# Altium footprint library Component_Footprints.PcbLib: 8 footprints
Each footprint in its own frame and in the unit in brackets; x right, y up, seen from the top. Pads: shape width x height; smd on the part's side, far side on the other; paste and mask are expansions set on the pad; w line width, h text height; cw(c..) or ccw(c..) is an arc to the next point about the centre after c.
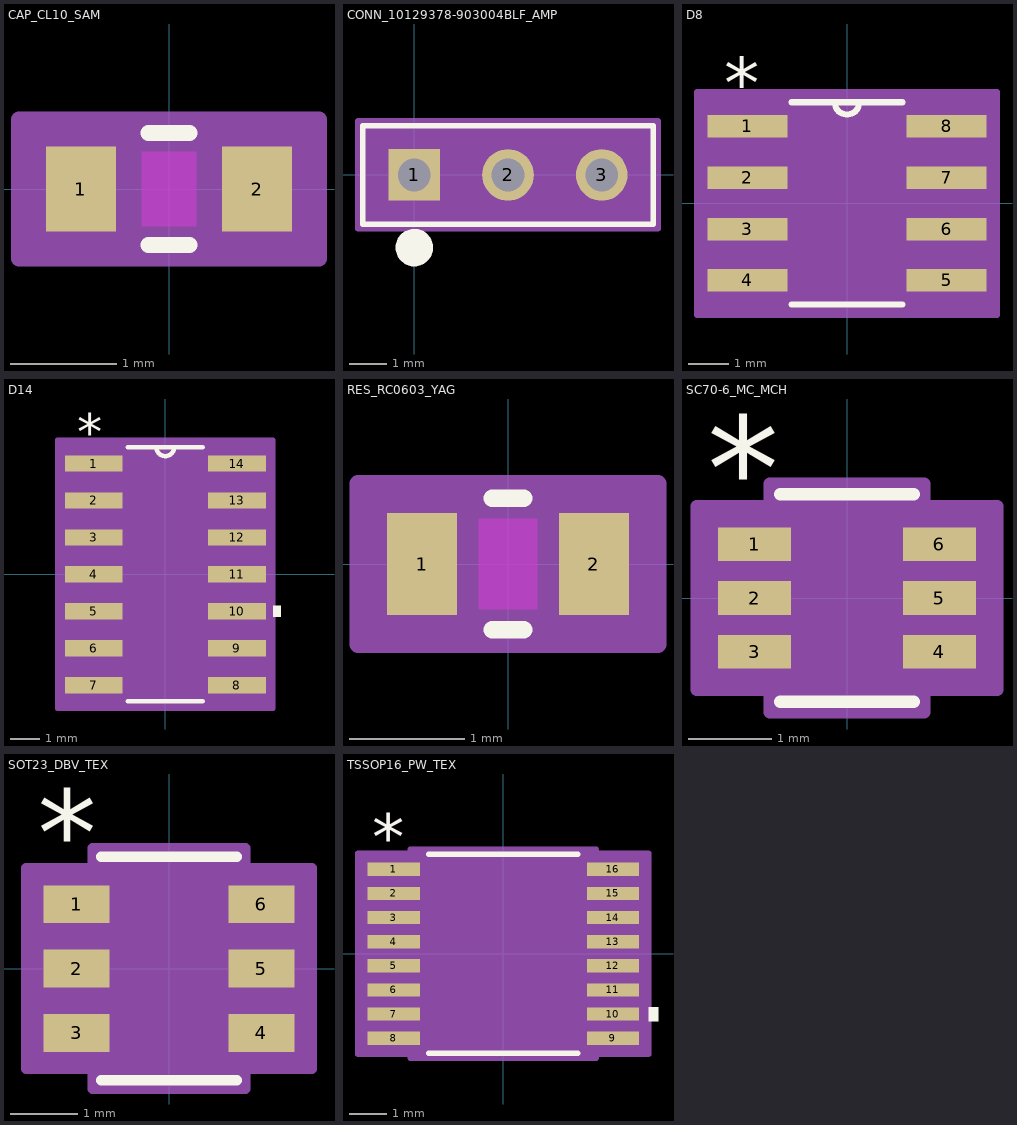
[diagram p0: the footprints below, top view; thin cyan lines are the x and y axes]

## CAP_CL10_SAM [mm]
pads (2):
  rect 0.656x0.8 smd paste+0 mask+0: 1(-0.828,0) 2(0.828,0)
Top Layer keep-out:
  region: -0.254,-0.349 -0.254,0.349 0.254,0.349 0.254,-0.349
Top Overlay:
  lines w0.152: -0.192,-0.527 0.192,-0.527 ; -0.192,0.527 0.192,0.527
Mechanical 13:
  lines w0.025: -0.8,-0.4 -0.8,0.4 ; -0.8,-0.4 -0.5,-0.4 -0.5,0.4 -0.8,0.4 ; -0.8,-0.4 0.8,-0.4 ; -0.8,-0.4 -0.8,0.4 ; -0.8,0.4 0.8,0.4 ; 0.8,-0.4 0.5,-0.4 0.5,0.4 0.8,0.4 ; 0.8,-0.4 0.8,0.4 ; 0.8,-0.4 0.8,0.4
Mechanical 15:
  region: 1.41,-0.654 -1.41,-0.654 -1.41,0.654 1.41,0.654
  lines w0.152: -1.41,-0.654 -1.41,0.654 1.41,0.654 1.41,-0.654 -1.41,-0.654
3D body "CAP_CL10_SAM.step": height 0.9, standoff 0, extent -0.8,-0.4 0.8,0.4

## CONN_10129378-903004BLF_AMP [mil]
pads (3):
  rect 55x55 / inner round 60 / far side rect 55x55 hole 35 paste-99999 mask+0: 1(0,0)
  round 55 / inner round 60 / far side round 55 hole 35 paste-99999 mask+0: 2(100,0) 3(200,0)
Top Overlay:
  circle w20: c0,-77.5 r10
  lines w6: -55,-52.5 255,-52.5 255,52.5 -55,52.5 -55,-52.5
Mechanical 13:
  circle w0: c0,-32.5 r10
  lines w1: -50,-47.5 250,-47.5 250,47.5 -50,47.5 -50,-47.5
Mechanical 15:
  region: 260,57.5 -60,57.5 -60,-57.5 260,-57.5
  lines w6: -60,-57.5 -60,57.5 260,57.5 260,-57.5 -60,-57.5
3D body "CONN_10129378-903004BLF_AMP.step": height 417.99, standoff -200, extent -50,-47.48 250,47.48

## D8 [mil]
pads (8):
  rect 78x22 smd paste-39 mask-39: 1(-97,75) 2(-97,25) 3(-97,-25) 4(-97,-75) 5(97,-75) 6(97,-25) 7(97,25) 8(97,75)
Top Overlay:
  lines w6: -54.08,-98.5 54.08,-98.5 ; -54.08,98.5 54.08,98.5 ; -12,98.5 ccw(c0,98.5) 12,98.5
  text "*" at -119.5,92 h50
Mechanical 13:
  lines w0: -12,98.5 ccw(c0,98.5) 12,98.5
  lines w1: -122,-85 -78.5,-85 -78.5,-65 -122,-65 -122,-85 ; -122,-35 -78.5,-35 -78.5,-15 -122,-15 -122,-35 ; -122,15 -78.5,15 -78.5,35 -122,35 -122,15 ; -122,65 -78.5,65 -78.5,85 -122,85 -122,65 ; -78.5,-98.5 -78.5,98.5 78.5,98.5 78.5,-98.5 -78.5,-98.5 ; 78.5,-85 122,-85 122,-65 78.5,-65 78.5,-85 ; 78.5,-35 122,-35 122,-15 78.5,-15 78.5,-35 ; 78.5,15 122,15 122,35 78.5,35 78.5,15 ; 78.5,65 122,65 122,85 78.5,85 78.5,65
  text "*" at -119.5,92 h50
Mechanical 15:
  region: 146,-108.5 -146,-108.5 -146,108.5 146,108.5
  lines w6: -146,-108.5 146,-108.5 146,108.5 -146,108.5 -146,-108.5
3D body "D8.step": height 69.09, standoff 0, extent -122.01,-98.5 122.01,98.5

## D14 [mil]
pads (14):
  rect 78x22 smd paste-39 mask-39: 1(-97,150) 2(-97,100) 3(-97,50) 4(-97,0) 5(-97,-50) 6(-97,-100) 7(-97,-150) 8(97,-150) 9(97,-100) 10(97,-50) 11(97,0) 12(97,50) 13(97,100) 14(97,150)
Top Overlay:
  region: 146,-42.5 156,-42.5 156,-57.5 146,-57.5
  lines w6: -50.89,-172 50.89,-172 ; -50.89,172 50.89,172 ; -12,172 ccw(c0,172) 12,172
  text "*" at -119.5,167 h50
Mechanical 13:
  lines w0: -12,172 ccw(c0,172) 12,172
  lines w1: -122,-160 -122,-140 -78.5,-140 -78.5,-160 -122,-160 ; -122,-110 -122,-90 -78.5,-90 -78.5,-110 -122,-110 ; -122,-60 -122,-40 -78.5,-40 -78.5,-60 -122,-60 ; -122,-10 -122,10 -78.5,10 -78.5,-10 -122,-10 ; -122,40 -122,60 -78.5,60 -78.5,40 -122,40 ; -122,90 -122,110 -78.5,110 -78.5,90 -122,90 ; -122,140 -122,160 -78.5,160 -78.5,140 -122,140 ; -78.5,-172 78.5,-172 78.5,172 -78.5,172 -78.5,-172 ; 78.5,-160 78.5,-140 122,-140 122,-160 78.5,-160 ; 78.5,-110 78.5,-90 122,-90 122,-110 78.5,-110 ; 78.5,-60 78.5,-40 122,-40 122,-60 78.5,-60 ; 78.5,-10 78.5,10 122,10 122,-10 78.5,-10 ; 78.5,40 78.5,60 122,60 122,40 78.5,40 ; 78.5,90 78.5,110 122,110 122,90 78.5,90 ; 78.5,140 78.5,160 122,160 122,140 78.5,140
  text "*" at -119.5,167 h50
Mechanical 15:
  region: 146,-182 -146,-182 -146,182 146,182
  lines w6: -146,-182 -146,182 146,182 146,-182 -146,-182
3D body "D14.step": height 69.09, standoff 0, extent -122.01,-172.01 122.01,172.01

## RES_RC0603_YAG [mil]
pads (2):
  rect 24x35 smd paste+0 mask+0: 1(-29.5,0) 2(29.5,0)
Top Layer keep-out:
  region: -10,-15.5 -10,15.5 10,15.5 10,-15.5
Top Overlay:
  lines w6: -5.39,-22.5 5.39,-22.5 ; -5.39,22.5 5.39,22.5
Mechanical 13:
  lines w1: -33.5,-17.5 -33.5,17.5 ; -33.5,-17.5 -17.5,-17.5 -17.5,17.5 -33.5,17.5 ; -33.5,-17.5 33.5,-17.5 ; -33.5,-17.5 -33.5,17.5 ; -33.5,17.5 33.5,17.5 ; 33.5,-17.5 17.5,-17.5 17.5,17.5 33.5,17.5 ; 33.5,-17.5 33.5,17.5 ; 33.5,-17.5 33.5,17.5
Mechanical 15:
  region: 51.5,-27.5 -51.5,-27.5 -51.5,27.5 51.5,27.5
  lines w6: -51.5,-27.5 -51.5,27.5 51.5,27.5 51.5,-27.5 -51.5,-27.5
3D body "RES_RC0603_YAG.step": height 22.01, standoff 0, extent -33.5,-17.48 33.5,17.48

## SC70-6_MC_MCH [mil]
pads (6):
  rect 34.67x16 smd paste+0 mask+0: 1(-43.91,25.59) 2(-43.91,0) 3(-43.91,-25.59) 4(43.91,-25.59) 5(43.91,0) 6(43.91,25.59)
Top Overlay:
  lines w6: -31.57,-49.29 31.57,-49.29 ; -31.57,49.29 31.57,49.29
  text "*" at -66.41,36.59 h50
Mechanical 13:
  lines w0: -12,44.29 ccw(c0,44.29) 12,44.29
  lines w1: -47.24,-33.59 -47.24,-17.59 -26.57,-17.59 -26.57,-33.59 -47.24,-33.59 ; -47.24,-8 -47.24,8 -26.57,8 -26.57,-8 -47.24,-8 ; -47.24,17.59 -47.24,33.59 -26.57,33.59 -26.57,17.59 -47.24,17.59 ; -26.57,-44.29 26.57,-44.29 26.57,44.29 -26.57,44.29 -26.57,-44.29 ; 26.57,-33.59 26.57,-17.59 47.24,-17.59 47.24,-33.59 26.57,-33.59 ; 26.57,-8 26.57,8 47.24,8 47.24,-8 26.57,-8 ; 26.57,17.59 26.57,33.59 47.24,33.59 47.24,17.59 26.57,17.59
  text "*" at -29.07,-1.41 h50
Mechanical 15:
  region: 36.57,-54.29 -36.57,-54.29 -36.57,-43.59 -71.24,-43.59 -71.24,43.59 -36.57,43.59 -36.57,54.29 36.57,54.29 36.57,43.59 71.24,43.59 71.24,-43.59 36.57,-43.59
  lines w6: -71.24,-43.59 -36.57,-43.59 -36.57,-54.29 36.57,-54.29 36.57,-43.59 71.24,-43.59 71.24,43.59 36.57,43.59 36.57,54.29 -36.57,54.29 -36.57,43.59 -71.24,43.59 -71.24,-43.59
3D body "SC70-6_MC_MCH.step": height 43.43, standoff 0, extent -47.24,-44.29 47.24,44.29

## SOT23_DBV_TEX [mil]
pads (6):
  rect 38.5x22 smd paste+0 mask+0: 1(-53.75,37.4) 2(-53.75,0) 3(-53.75,-37.4) 4(53.75,-37.4) 5(53.75,0) 6(53.75,37.4)
Top Overlay:
  lines w6: -39.5,-65 39.5,-65 ; -39.5,65 39.5,65
  text "*" at -76.25,54.4 h50
Mechanical 13:
  lines w0: -12,60 ccw(c0,60) 12,60
  lines w1: -59,-47.4 -59,-27.4 -34.5,-27.4 -34.5,-47.4 -59,-47.4 ; -59,-10 -59,10 -34.5,10 -34.5,-10 -59,-10 ; -59,27.4 -59,47.4 -34.5,47.4 -34.5,27.4 -59,27.4 ; -34.5,-60 34.5,-60 34.5,60 -34.5,60 -34.5,-60 ; 34.5,-47.4 34.5,-27.4 59,-27.4 59,-47.4 34.5,-47.4 ; 34.5,-10 34.5,10 59,10 59,-10 34.5,-10 ; 34.5,27.4 34.5,47.4 59,47.4 59,27.4 34.5,27.4
  text "*" at -32,7 h50
Mechanical 15:
  region: -44.5,-58.4 -83,-58.4 -83,58.4 -44.5,58.4 -44.5,70 44.5,70 44.5,58.4 83,58.4 83,-58.4 44.5,-58.4 44.5,-70 -44.5,-70
  lines w6: -83,-58.4 -83,58.4 -44.5,58.4 -44.5,70 44.5,70 44.5,58.4 83,58.4 83,-58.4 44.5,-58.4 44.5,-70 -44.5,-70 -44.5,-58.4 -83,-58.4
3D body "SOT23_DBV_TEX.step": height 57.09, standoff 0, extent -59.02,-60 59.02,60

## TSSOP16_PW_TEX [mil]
pads (16):
  rect 55.5x14 smd paste+0 mask+0: 1(-116.25,89.57) 2(-116.25,63.98) 3(-116.25,38.39) 4(-116.25,12.8) 5(-116.25,-12.8) 6(-116.25,-38.39) 7(-116.25,-63.98) 8(-116.25,-89.57) 9(116.25,-89.57) 10(116.25,-63.98) 11(116.25,-38.39) 12(116.25,-12.8) 13(116.25,12.8) 14(116.25,38.39) 15(116.25,63.98) 16(116.25,89.57)
Top Overlay:
  region: 154,-56.48 164,-56.48 164,-71.48 154,-71.48
  lines w6: -78.92,-105.5 78.92,-105.5 ; -78.92,105.5 78.92,105.5
  text "*" at -138.75,98.57 h50
Mechanical 13:
  lines w0: -12,100.5 ccw(c0,100.5) 12,100.5
  lines w1: -130,-95.57 -130,-83.57 -88.5,-83.57 -88.5,-95.57 -130,-95.57 ; -130,-69.98 -130,-57.98 -88.5,-57.98 -88.5,-69.98 -130,-69.98 ; -130,-44.39 -130,-32.39 -88.5,-32.39 -88.5,-44.39 -130,-44.39 ; -130,-18.8 -130,-6.8 -88.5,-6.8 -88.5,-18.8 -130,-18.8 ; -130,6.8 -130,18.8 -88.5,18.8 -88.5,6.8 -130,6.8 ; -130,32.39 -130,44.39 -88.5,44.39 -88.5,32.39 -130,32.39 ; -130,57.98 -130,69.98 -88.5,69.98 -88.5,57.98 -130,57.98 ; -130,83.57 -130,95.57 -88.5,95.57 -88.5,83.57 -130,83.57 ; -88.5,-100.5 88.5,-100.5 88.5,100.5 -88.5,100.5 -88.5,-100.5 ; 88.5,-95.57 88.5,-83.57 130,-83.57 130,-95.57 88.5,-95.57 ; 88.5,-69.98 88.5,-57.98 130,-57.98 130,-69.98 88.5,-69.98 ; 88.5,-44.39 88.5,-32.39 130,-32.39 130,-44.39 88.5,-44.39 ; 88.5,-18.8 88.5,-6.8 130,-6.8 130,-18.8 88.5,-18.8 ; 88.5,6.8 88.5,18.8 130,18.8 130,6.8 88.5,6.8 ; 88.5,32.39 88.5,44.39 130,44.39 130,32.39 88.5,32.39 ; 88.5,57.98 88.5,69.98 130,69.98 130,57.98 88.5,57.98 ; 88.5,83.57 88.5,95.57 130,95.57 130,83.57 88.5,83.57
  text "*" at -86,47.5 h50
Mechanical 15:
  region: -98.5,-106.57 -154,-106.57 -154,106.57 -98.5,106.57 -98.5,110.5 98.5,110.5 98.5,106.57 154,106.57 154,-106.57 98.5,-106.57 98.5,-110.5 -98.5,-110.5
  lines w6: -154,-106.57 -154,106.57 -98.5,106.57 -98.5,110.5 98.5,110.5 98.5,106.57 154,106.57 154,-106.57 98.5,-106.57 98.5,-110.5 -98.5,-110.5 -98.5,-106.57 -154,-106.57
3D body "TSSOP16_PW_TEX.step": height 47.09, standoff 0, extent -130,-100.51 130,100.51